# Altium footprint library ESP32_SD.PcbLib: 13 footprints
Each footprint in its own frame and in the unit in brackets; x right, y up, seen from the top. Pads: shape width x height; smd on the part's side, far side on the other; paste and mask are expansions set on the pad; w line width, h text height; cw(c..) or ccw(c..) is an arc to the next point about the centre after c.
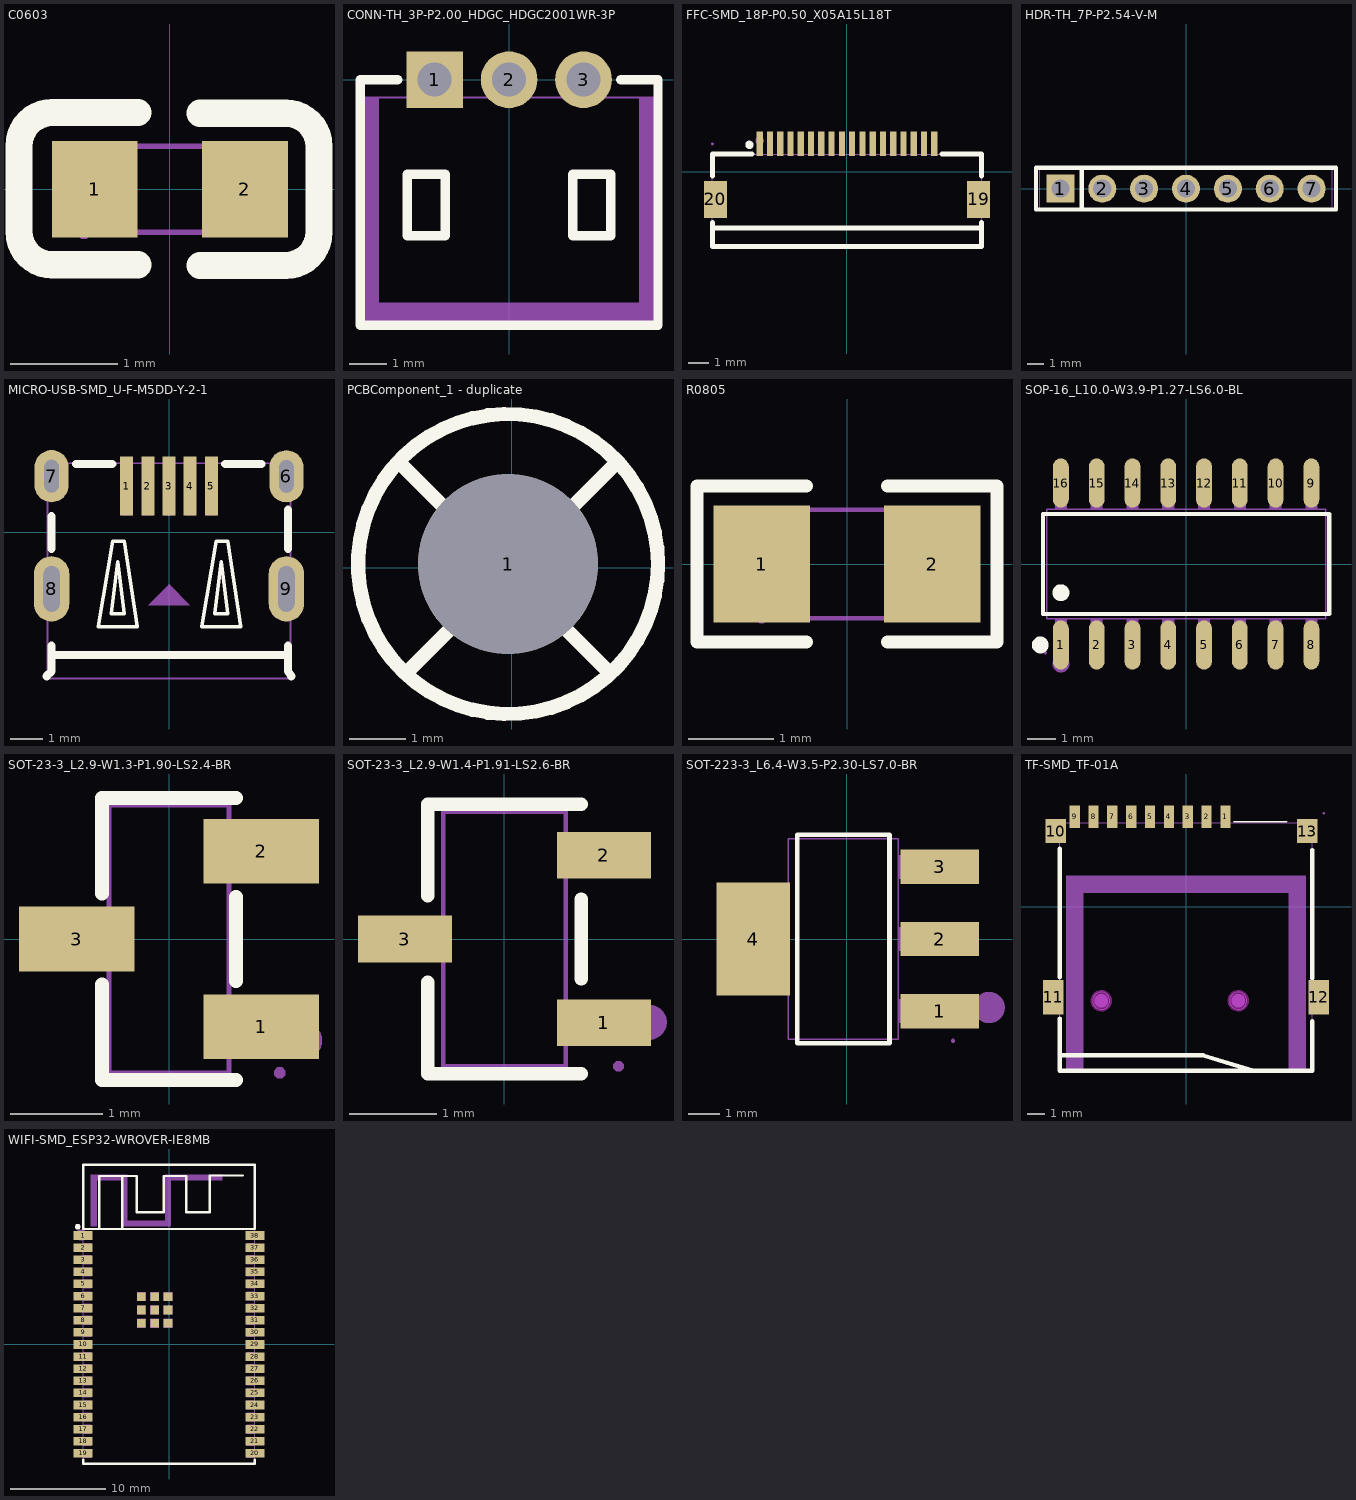
[diagram p0: the footprints below, top view; thin cyan lines are the x and y axes]

## C0603 [mm]
pads (2):
  rect 0.8x0.9 smd: 1(-0.7,0) 2(0.7,0)
Top Overlay:
  lines w0.254: -0.296,-0.704 -1.096,-0.704 cw(c-1.096,-0.394) -1.406,-0.394 -1.405,0.406 cw(c-1.096,0.406) -1.096,0.715 -0.296,0.715 ; 0.28,-0.71 1.08,-0.71 ccw(c1.08,-0.4) 1.39,-0.4 1.39,0.4 ccw(c1.08,0.4) 1.08,0.71 0.28,0.71
Mechanical 15:
  region: -0.8,-0.4 -0.8,0.4 -0.5,0.4 -0.5,-0.4
  region: 0.8,-0.4 0.8,0.4 0.5,0.4 0.5,-0.4
  region: -0.8,-0.46 -0.776,-0.459 -0.743,-0.424 -0.743,-0.376 -0.776,-0.341 -0.8,-0.34 -0.824,-0.341 -0.858,-0.376 -0.858,-0.424 -0.824,-0.459 -0.8,-0.46
  lines w0.051: -0.8,-0.4 -0.8,0.4 0.8,0.4 0.8,-0.4 -0.8,-0.4

## CONN-TH_3P-P2.00_HDGC_HDGC2001WR-3P [mil]
pads (3):
  rect 60x60 hole 36 paste+0 mask+1.97: 1(-78.74,0)
  round 60 hole 36 paste+0 mask+1.97: 2(0,0) 3(78.74,0)
Top Overlay:
  lines w10: -117.84,0 -157.48,0 -157.48,-259.84 157.48,-259.84 157.48,0 117.84,0 ; -107.52,-165 -107.52,-100 -67.52,-100 -67.52,-165 -107.52,-165 ; 67.52,-165 67.52,-100 107.52,-100 107.52,-165 67.52,-165
Mechanical 6:
  region: -157.48,-19.68 -157.48,-255.91 157.48,-255.91 157.48,-19.68 137.79,-19.68 137.79,-236.22 -137.79,-236.22 -137.79,-19.68
Mechanical 15:
  region: -155.12,-258.94 -155.12,-257.96 -156.5,-256.58 -158.46,-256.58 -159.84,-257.96 -159.84,-258.94 -159.84,-259.92 -158.46,-261.3 -156.5,-261.3 -155.12,-259.92 -155.12,-258.94
  region: 68.9,9.84 88.58,9.84 88.58,-18.9 68.9,-18.9
  region: -9.84,9.84 9.84,9.84 9.84,-18.9 -9.84,-18.9
  region: -88.58,9.84 -68.9,9.84 -68.9,-18.9 -88.58,-18.9
  region: 68.9,9.84 88.58,9.84 88.58,-9.84 68.9,-9.84
  region: -9.84,9.84 9.84,9.84 9.84,-9.84 -9.84,-9.84
  region: -88.58,9.84 -68.9,9.84 -68.9,-9.84 -88.58,-9.84
  lines w2: -157.48,-258.94 157.48,-258.94 157.48,-18.78 -157.48,-18.78 -157.48,-258.94

## FFC-SMD_18P-P0.50_X05A15L18T [mm]
pads (20):
  rect 0.3x1.2 smd: 1(-4.25,1.35) 2(-3.75,1.35) 3(-3.25,1.35) 4(-2.75,1.35) 5(-2.25,1.35) 6(-1.75,1.35) 7(-1.25,1.35) 8(-0.75,1.35) 9(-0.25,1.35) 10(0.25,1.35) 11(0.75,1.35) 12(1.25,1.35) 13(1.75,1.35) 14(2.25,1.35) 15(2.75,1.35) 16(3.25,1.35) 17(3.75,1.35) 18(4.25,1.35)
  rect 1.1x1.8 smd: 19(6.4,-1.35) 20(-6.4,-1.35)
Top Overlay:
  circle w0.2: c-4.75,1.3 r0.1
  lines w0.254: -6.55,-2.481 -6.55,-2.75 ; -6.55,-0.219 -6.55,0.85 -4.626,0.85 ; 4.626,0.85 6.55,0.85 6.55,-0.219 ; 6.55,-2.481 6.55,-2.75 ; -6.55,-2.75 -6.55,-2.9 -6.55,-3.65 6.55,-3.65 6.55,-2.75 ; -6.55,-2.75 6.55,-2.75
Mechanical 6:
  circle w0.2: c-4.25,1.5 r0.1
Mechanical 15:
  region: -5.85,-1 -5.85,-2 -6.55,-2 -6.55,-1
  region: 6.55,-1 6.55,-2 5.85,-2 5.85,-1
  region: -4.175,1.35 -4.175,0.8 -4.325,0.8 -4.325,1.35
  region: -3.675,1.35 -3.675,0.8 -3.825,0.8 -3.825,1.35
  region: -3.175,1.35 -3.175,0.8 -3.325,0.8 -3.325,1.35
  region: -2.675,1.35 -2.675,0.8 -2.825,0.8 -2.825,1.35
  region: -2.175,1.35 -2.175,0.8 -2.325,0.8 -2.325,1.35
  region: -1.675,1.35 -1.675,0.8 -1.825,0.8 -1.825,1.35
  region: -1.175,1.35 -1.175,0.8 -1.325,0.8 -1.325,1.35
  region: -0.675,1.35 -0.675,0.8 -0.825,0.8 -0.825,1.35
  region: -0.175,1.35 -0.175,0.8 -0.325,0.8 -0.325,1.35
  region: 0.325,1.35 0.325,0.8 0.175,0.8 0.175,1.35
  region: 0.825,1.35 0.825,0.8 0.675,0.8 0.675,1.35
  region: 1.325,1.35 1.325,0.8 1.175,0.8 1.175,1.35
  region: 1.825,1.35 1.825,0.8 1.675,0.8 1.675,1.35
  region: 2.325,1.35 2.325,0.8 2.175,0.8 2.175,1.35
  region: 2.825,1.35 2.825,0.8 2.675,0.8 2.675,1.35
  region: 3.325,1.35 3.325,0.8 3.175,0.8 3.175,1.35
  region: 3.825,1.35 3.825,0.8 3.675,0.8 3.675,1.35
  region: 4.325,1.35 4.325,0.8 4.175,0.8 4.175,1.35
  region: -6.55,1.29 -6.526,1.291 -6.492,1.326 -6.492,1.374 -6.526,1.409 -6.55,1.41 -6.574,1.409 -6.608,1.374 -6.608,1.326 -6.574,1.291 -6.55,1.29
  lines w0.051: -6.55,-3.65 6.55,-3.65 6.55,0.85 -6.55,0.85 -6.55,-3.65

## HDR-TH_7P-P2.54-V-M [mm]
pads (7):
  rect 1.7x1.7 hole 1.1: 1(-7.62,0)
  round 1.7 hole 1.1: 2(-5.08,0) 3(-2.54,0) 4(0,0) 5(2.54,0) 6(5.08,0) 7(7.62,0)
Top Overlay:
  lines w0.254: -6.326,-1.27 -6.326,1.27 ; -9.1,-1.27 -9.1,1.27 9.1,1.27 9.1,-1.27 -9.1,-1.27
Mechanical 15:
  region: -7.94,0.32 -7.3,0.32 -7.3,-0.32 -7.94,-0.32
  region: -5.4,0.32 -4.76,0.32 -4.76,-0.32 -5.4,-0.32
  region: -2.86,0.32 -2.22,0.32 -2.22,-0.32 -2.86,-0.32
  region: -0.32,0.32 0.32,0.32 0.32,-0.32 -0.32,-0.32
  region: 2.22,0.32 2.86,0.32 2.86,-0.32 2.22,-0.32
  region: 4.76,0.32 5.4,0.32 5.4,-0.32 4.76,-0.32
  region: 7.3,0.32 7.94,0.32 7.94,-0.32 7.3,-0.32
  region: -8.935,-1.25 -8.934,-1.274 -8.9,-1.309 -8.851,-1.309 -8.816,-1.274 -8.815,-1.25 -8.816,-1.225 -8.851,-1.191 -8.9,-1.191 -8.934,-1.225 -8.935,-1.25
  lines w0.051: -8.875,-1.25 -8.875,1.25 8.875,1.25 8.875,-1.25 -8.875,-1.25

## MICRO-USB-SMD_U-F-M5DD-Y-2-1 [mm]
pads (9):
  rect 0.4x1.8 smd paste-100 mask+0.051: 1(-1.3,1.423) 2(-0.65,1.423) 3(0,1.423) 4(0.65,1.423) 5(1.3,1.423)
  oval 1.05x1.6 hole 0.45 slot 1 at 90 deg paste+0 mask+0.05: 6(3.6,1.723) 7(-3.6,1.727)
  oval 1.09x2 hole 0.5 slot 1.4 at 90 deg paste+0 mask+0.05: 8(-3.6,-1.727) 9(3.6,-1.727)
Top Overlay:
  lines w0.102: -2.174,-2.889 -1.725,-0.264 -1.375,-0.264 -0.975,-2.889 -2.174,-2.889 ; -1.775,-2.49 -1.574,-0.89 -1.374,-2.49 -1.775,-2.49 ; 1.001,-2.889 1.45,-0.264 1.8,-0.264 2.2,-2.889 1.001,-2.889 ; 1.4,-2.49 1.601,-0.89 1.801,-2.49 1.4,-2.49
  lines w0.254: -3.75,-4.408 -3.6,-4.258 -3.6,-3.758 ; -3.6,-3.477 -3.6,-3.758 ; -3.6,-0.496 -3.6,0.496 ; -2.85,2.098 -1.737,2.098 ; 1.725,2.098 2.838,2.098 ; 3.65,-3.475 3.65,-3.758 ; 3.65,-0.497 3.65,0.693 ; 3.75,-4.408 3.65,-4.258 3.65,-3.758 ; -3.6,-3.758 3.65,-3.758
Top Paste:
  region: 1.1,2.323 1.5,2.323 1.5,0.523 1.1,0.523
  region: 0.45,2.323 0.85,2.323 0.85,0.523 0.45,0.523
  region: -0.2,2.323 0.2,2.323 0.2,0.523 -0.2,0.523
  region: -0.85,2.323 -0.45,2.323 -0.45,0.523 -0.85,0.523
  region: -1.5,2.323 -1.1,2.323 -1.1,0.523 -1.5,0.523
  region: 3.05,-1.269 3.05,-1.161 3.133,-0.96 3.286,-0.807 3.487,-0.724 3.703,-0.724 3.904,-0.807 4.057,-0.96 4.14,-1.161 4.14,-1.269 4.14,-2.179 4.14,-2.288 4.057,-2.488 3.904,-2.641 3.703,-2.724 3.487,-2.724 3.286,-2.641 3.133,-2.488 3.05,-2.288 3.05,-2.179
  region: 3.075,1.997 3.075,2.101 3.155,2.294 3.303,2.442 3.496,2.522 3.704,2.522 3.897,2.442 4.045,2.294 4.125,2.101 4.125,1.997 4.125,1.447 4.125,1.342 4.045,1.15 3.897,1.002 3.704,0.922 3.496,0.922 3.303,1.002 3.155,1.15 3.075,1.342 3.075,1.447
  region: -4.14,-1.269 -4.14,-1.161 -4.057,-0.96 -3.904,-0.807 -3.703,-0.724 -3.487,-0.724 -3.286,-0.807 -3.133,-0.96 -3.05,-1.161 -3.05,-1.269 -3.05,-2.179 -3.05,-2.288 -3.133,-2.488 -3.286,-2.641 -3.487,-2.724 -3.703,-2.724 -3.904,-2.641 -4.057,-2.488 -4.14,-2.288 -4.14,-2.179
  region: -4.125,2.019 -4.125,2.124 -4.045,2.316 -3.897,2.464 -3.704,2.544 -3.496,2.544 -3.303,2.464 -3.155,2.316 -3.075,2.124 -3.075,2.019 -3.075,1.469 -3.075,1.365 -3.155,1.172 -3.303,1.024 -3.496,0.944 -3.704,0.944 -3.897,1.024 -4.045,1.172 -4.125,1.365 -4.125,1.469
Mechanical 6:
  region: -0.635,-2.229 0.635,-2.229 0,-1.594
Mechanical 15:
  region: -3.725,-1.272 -3.475,-1.272 -3.475,-2.182 -3.725,-2.182
  region: 3.475,-1.272 3.725,-1.272 3.725,-2.182 3.475,-2.182
  region: -3.725,2.127 -3.475,2.127 -3.475,1.327 -3.725,1.327
  region: 3.475,2.123 3.725,2.123 3.725,1.323 3.475,1.323
  region: 1.15,1.923 1.45,1.923 1.45,0.523 1.15,0.523
  region: 0.5,1.923 0.8,1.923 0.8,0.523 0.5,0.523
  region: -0.15,1.923 0.15,1.923 0.15,0.523 -0.15,0.523
  region: -0.8,1.923 -0.5,1.923 -0.5,0.523 -0.8,0.523
  region: -1.45,1.923 -1.15,1.923 -1.15,0.523 -1.45,0.523
  region: -3.665,2.127 -3.666,2.151 -3.701,2.184 -3.749,2.184 -3.784,2.151 -3.785,2.127 -3.784,2.103 -3.749,2.069 -3.701,2.069 -3.666,2.103 -3.665,2.127
  lines w0.051: -3.725,-4.477 3.725,-4.477 3.725,2.123 -3.725,2.123 -3.725,-4.477

## PCBComponent_1 - duplicate [mil]
pads (1):
  round 126 hole 126 paste+0 mask+4: 1(-2.5,2.5)
Top Overlay:
  circle w10: c-2.5,2.5 r105
  lines w10: -77.5,72.5 67.5,-72.5 ; -72.5,-72.5 72.5,72.5

## R0805 [mm]
pads (2):
  rect 1.133x1.377 smd paste-100 mask+0.051: 1(-1,0) 2(1,0)
Top Overlay:
  lines w0.152: -0.476,-0.917 -1.761,-0.917 -1.761,0.917 -0.476,0.917 ; 0.476,-0.917 1.761,-0.917 1.761,0.917 0.476,0.917
Top Paste:
  region: 0.45,-0.64 0.45,-0.22 0.895,-0.22 0.895,0.23 0.455,0.23 0.45,0.64 0.5,0.69 1.65,0.69 1.7,0.64 1.7,-0.64 1.65,-0.69 0.5,-0.69
  region: -1.7,-0.64 -1.7,0.64 -1.65,0.69 -0.5,0.69 -0.45,0.64 -0.445,0.23 -0.895,0.23 -0.895,-0.22 -0.455,-0.22 -0.45,-0.64 -0.5,-0.69 -1.65,-0.69
Mechanical 15:
  region: -1.06,-0.638 -1.06,-0.662 -1.025,-0.698 -0.975,-0.698 -0.94,-0.662 -0.94,-0.638 -0.94,-0.613 -0.975,-0.578 -1.025,-0.578 -1.06,-0.613 -1.06,-0.638
  region: 1,-0.637 1,0.637 0.6,0.637 0.6,-0.637
  region: -1,-0.637 -1,0.637 -0.6,0.637 -0.6,-0.637
  lines w0.051: -1,-0.637 1,-0.637 1,0.637 -1,0.637 -1,-0.637

## SOP-16_L10.0-W3.9-P1.27-LS6.0-BL [mm]
pads (16):
  oval 0.56x1.745 smd: 1(-4.445,-2.872) 2(-3.175,-2.872) 3(-1.905,-2.872) 4(-0.635,-2.872) 5(0.635,-2.872) 6(1.905,-2.872) 7(3.175,-2.872) 8(4.445,-2.872) 9(4.445,2.872) 10(3.175,2.872) 11(1.905,2.872) 12(0.635,2.872) 13(-0.635,2.872) 14(-1.905,2.872) 15(-3.175,2.872) 16(-4.445,2.872)
Top Overlay:
  circle w0.3: c-5.177,-2.872 r0.15
  circle w0.3: c-4.445,-1.019 r0.15
  lines w0.152: -5.076,-1.771 5.076,-1.771 5.076,1.771 -5.076,1.771 -5.076,-1.771
Mechanical 6:
  circle w0.3: c-4.445,-3.55 r0.15
Mechanical 15:
  drawing of 37 lines, arcs and shapes, not listed

## SOT-23-3_L2.9-W1.3-P1.90-LS2.4-BR [mm]
pads (3):
  rect 1.25x0.7 smd: 1(1,-0.95) 2(1,0.95) 3(-1,0)
Top Overlay:
  lines w0.152: -0.726,-0.495 -0.726,-1.526 0.726,-1.526 ; -0.726,0.495 -0.726,1.526 0.726,1.526 ; 0.726,-0.455 0.726,0.455
Mechanical 6:
  circle w0.2: c1.46,-1.1 r0.1
Mechanical 15:
  region: -1.2,-0.215 -1.2,0.215 -0.9,0.215 -0.9,-0.215
  region: -0.91,-0.215 -0.91,0.215 -0.64,0.215 -0.64,-0.215
  region: 0.9,-1.165 0.9,-0.735 1.2,-0.735 1.2,-1.165
  region: 0.64,-1.165 0.64,-0.735 0.91,-0.735 0.91,-1.165
  region: 0.9,0.735 0.9,1.165 1.2,1.165 1.2,0.735
  region: 0.64,0.735 0.64,1.165 0.91,1.165 0.91,0.735
  region: 1.2,-1.39 1.175,-1.39 1.14,-1.425 1.14,-1.475 1.175,-1.51 1.2,-1.51 1.225,-1.51 1.26,-1.475 1.26,-1.425 1.225,-1.39 1.2,-1.39
  lines w0.051: -0.65,-1.45 0.65,-1.45 0.65,1.45 -0.65,1.45 -0.65,-1.45

## SOT-23-3_L2.9-W1.4-P1.91-LS2.6-BR [mm]
pads (3):
  rect 1.07x0.532 smd: 1(1.135,-0.955) 2(1.135,0.955) 3(-1.135,0)
Top Overlay:
  lines w0.152: -0.876,-0.495 -0.876,-1.536 0.876,-1.536 ; -0.876,0.495 -0.876,1.536 0.876,1.536 ; 0.876,-0.455 0.876,0.455
Mechanical 6:
  circle w0.2: c1.651,-0.95 r0.1
Mechanical 15:
  region: 0.95,-1.167 0.95,-0.742 1.3,-0.742 1.3,-1.167
  region: 0.69,-1.167 0.69,-0.742 0.96,-0.742 0.96,-1.167
  region: 0.95,0.742 0.95,1.167 1.3,1.167 1.3,0.742
  region: 0.69,0.742 0.69,1.167 0.96,1.167 0.96,0.742
  region: -1.3,-0.212 -1.3,0.212 -0.95,0.212 -0.95,-0.212
  region: -0.96,-0.212 -0.96,0.212 -0.69,0.212 -0.69,-0.212
  region: 1.24,-1.45 1.241,-1.474 1.276,-1.508 1.324,-1.508 1.359,-1.474 1.36,-1.45 1.359,-1.426 1.324,-1.393 1.276,-1.393 1.241,-1.426 1.24,-1.45
  lines w0.051: -0.7,-1.45 0.7,-1.45 0.7,1.45 -0.7,1.45 -0.7,-1.45

## SOT-223-3_L6.4-W3.5-P2.30-LS7.0-BR [mm]
pads (4):
  rect 2.5x1.1 smd: 1(2.97,-2.3) 2(2.97,0) 3(2.97,2.3)
  rect 2.34x3.6 smd: 4(-2.97,0)
Top Overlay:
  lines w0.152: -1.571,-3.326 1.371,-3.326 1.371,3.326 -1.571,3.326 -1.571,-3.326
Mechanical 6:
  circle w0.5: c4.552,-2.188 r0.25
Mechanical 15:
  region: 1.64,1.925 1.64,2.675 2.66,2.675 2.66,1.925
  region: 2.65,1.925 2.65,2.675 3.4,2.675 3.4,1.925
  region: 1.64,-0.375 1.64,0.375 2.66,0.375 2.66,-0.375
  region: 2.65,-0.375 2.65,0.375 3.4,0.375 3.4,-0.375
  region: 1.64,-2.675 1.64,-1.925 2.66,-1.925 2.66,-2.675
  region: 2.65,-2.675 2.65,-1.925 3.4,-1.925 3.4,-2.675
  region: -2.86,-1.5 -2.86,1.5 -1.84,1.5 -1.84,-1.5
  region: -3.6,-1.5 -3.6,1.5 -2.85,1.5 -2.85,-1.5
  region: 3.4,-3.19 3.375,-3.19 3.34,-3.225 3.34,-3.275 3.375,-3.31 3.4,-3.31 3.425,-3.31 3.46,-3.275 3.46,-3.225 3.425,-3.19 3.4,-3.19
  lines w0.051: -1.854,-3.2 -1.854,3.2 1.646,3.2 1.646,-3.2 -1.854,-3.2

## TF-SMD_TF-01A [mm]
pads (13):
  rect 0.6x1.3 smd: 1(2.301,5.276) 2(1.201,5.276) 3(0.101,5.276) 4(-0.999,5.276) 5(-2.099,5.276) 6(-3.199,5.276) 7(-4.299,5.276) 8(-5.399,5.276) 9(-6.499,5.276)
  rect 1.2x1.4 smd: 10(-7.599,4.426) 13(7.081,4.426)
  rect 1.2x2 smd: 11(-7.76,-5.276) 12(7.76,-5.276)
Top Overlay:
  lines w0.102: 2.786,4.972 5.885,4.973
  lines w0.254: -7.366,-9.091 -7.366,-8.667 1,-8.666 3.937,-9.563 ; -7.366,-6.516 -7.366,-9.564 7.366,-9.564 7.366,-6.666 ; -7.366,-4.103 -7.366,3.406 ; 7.366,-4.167 7.366,3.326
Keep-Out Layer:
  board cut-out: 3.05,-5.975 3.149,-5.975 3.333,-5.899 3.474,-5.759 3.55,-5.575 3.55,-5.376 3.474,-5.192 3.333,-5.052 3.149,-4.975 3.05,-4.975 2.95,-4.975 2.767,-5.052 2.626,-5.192 2.55,-5.376 2.55,-5.575 2.626,-5.759 2.767,-5.899 2.951,-5.975 3.05,-5.975
  board cut-out: -4.95,-5.978 -4.851,-5.978 -4.667,-5.902 -4.526,-5.761 -4.45,-5.577 -4.45,-5.378 -4.526,-5.195 -4.667,-5.054 -4.851,-4.978 -4.95,-4.978 -5.05,-4.978 -5.233,-5.054 -5.374,-5.195 -5.45,-5.379 -5.45,-5.577 -5.374,-5.761 -5.233,-5.902 -5.049,-5.978 -4.95,-5.978
Mechanical 1:
  circle w0.005: c3.05,-5.475 r0.5
  circle w0.005: c-4.95,-5.478 r0.5
Mechanical 6:
  circle w0.4: c-4.95,-5.478 r0.2
  circle w0.4: c3.05,-5.475 r0.2
  region: -6,1.834 6,1.834 6,0.834 -6,0.834
  region: 7,-9.666 7,1.834 6,1.834 6,-9.666
  region: -7,-9.666 -7,1.834 -6,1.834 -6,-9.666
Mechanical 15:
  region: -6.684,4.924 -6.684,5.474 -6.314,5.474 -6.314,4.924
  region: 6.66,4.926 7.31,4.926 7.31,3.926 6.66,3.926
  region: -8.05,-4.476 -7.35,-4.476 -7.35,-6.076 -8.05,-6.076
  region: 7.35,-6.076 7.35,-4.476 8.05,-4.476 8.05,-6.076
  region: -7.95,3.926 -7.95,4.926 -7.25,4.926 -7.25,3.926
  region: -5.58,4.924 -5.58,5.474 -5.21,5.474 -5.21,4.924
  region: -4.482,4.924 -4.482,5.474 -4.112,5.474 -4.112,4.924
  region: -3.386,4.914 -3.386,4.984 -3.016,4.984 -3.016,4.914
  region: -3.386,4.924 -3.386,5.474 -3.016,5.474 -3.016,4.924
  region: -2.288,4.914 -2.288,4.984 -1.918,4.984 -1.918,4.914
  region: -2.288,4.924 -2.288,5.474 -1.918,5.474 -1.918,4.924
  region: -1.189,4.924 -1.189,5.474 -0.819,5.474 -0.819,4.924
  region: -0.089,4.924 -0.089,5.474 0.28,5.474 0.28,4.924
  region: 1.007,4.924 1.007,5.474 1.377,5.474 1.377,4.924
  region: 2.107,4.924 2.107,5.474 2.477,5.474 2.477,4.924
  region: 8.05,5.414 8.074,5.415 8.108,5.45 8.107,5.498 8.074,5.533 8.05,5.534 8.026,5.533 7.992,5.498 7.992,5.45 8.026,5.415 8.05,5.414
  lines w0.051: -7.38,-9.575 7.38,-9.575 7.38,4.925 -7.38,4.925 -7.38,-9.575
Multi-Layer keep-out:
  circle w0.254: c3.05,-5.475 r0.5
  circle w0.254: c-4.95,-5.478 r0.5

## WIFI-SMD_ESP32-WROVER-IE8MB [mm]
pads (47):
  rect 2x0.9 smd: 1(-9,11.43) 2(-9,10.16) 3(-9,8.89) 4(-9,7.62) 5(-9,6.35) 6(-9,5.08) 7(-9,3.81) 8(-9,2.54) 9(-9,1.27) 10(-9,0) 11(-9,-1.27) 12(-9,-2.54) 13(-9,-3.81) 14(-9,-5.08) 15(-9,-6.35) 16(-9,-7.62) 17(-9,-8.89) 18(-9,-10.16) 19(-9,-11.43) 20(9,-11.43) 21(9,-10.16) 22(9,-8.89) 23(9,-7.62) 24(9,-6.35) 25(9,-5.08) 26(9,-3.81) 27(9,-2.54) 28(9,-1.27) 29(9,0) 30(9,1.27) 31(9,2.54) 32(9,3.81) 33(9,5.08) 34(9,6.35) 35(9,7.62) 36(9,8.89) 37(9,10.16) 38(9,11.43)
  rect 0.9x0.9 smd: 39(-2.895,2.225) 39(-2.895,3.62) 39(-2.895,5.015) 39(-1.5,5.015) 39(-1.5,2.225) 39(-1.5,3.62) 39(-0.105,2.225) 39(-0.105,3.62) 39(-0.105,5.015)
Top Overlay:
  circle w0.3: c-9.57,12.35 r0.15
  lines w0.254: -9.001,-12.112 -9.001,-12.531 -8.99,-12.531 9,-12.531 9,-12.112 ; -7.304,12.112 -7.304,17.67 -3.369,17.67 -3.369,13.87 -0.55,13.87 -0.55,17.67 1.83,17.67 1.83,13.87 4.289,13.87 4.289,17.72 7.751,17.72 ; -4.901,12.111 -4.901,17.67 -4.558,17.67 ; 8.99,18.87 -9,18.87 -9,12.111 9,12.111 9,18.87
Mechanical 6:
  circle w0.6: c-9.2,11.48 r0.3
  region: 0.2,17.8 5.6,17.8 5.6,17.2 0.2,17.2
  region: -0.4,12.4 -0.4,17.8 0.2,17.8 0.2,12.4
  region: -4.4,12.4 -0.4,12.4 -0.4,13 -4.4,13
  region: -5,17.8 -4.4,17.8 -4.4,12.4 -5,12.4
  region: -7.6,17.8 -5,17.8 -5,17.2 -7.6,17.2
  region: -8.2,12.4 -8.2,17.8 -7.6,17.8 -7.6,12.4
Mechanical 15:
  drawing of 52 lines, arcs and shapes, not listed